# Altium footprint library chipshouter-pico.PcbLib: 27 footprints (part 1 of 2)
Each footprint in its own frame and in the unit in brackets; x right, y up, seen from the top. Pads: shape width x height; smd on the part's side, far side on the other; paste and mask are expansions set on the pad; w line width, h text height; cw(c..) or ccw(c..) is an arc to the next point about the centre after c.
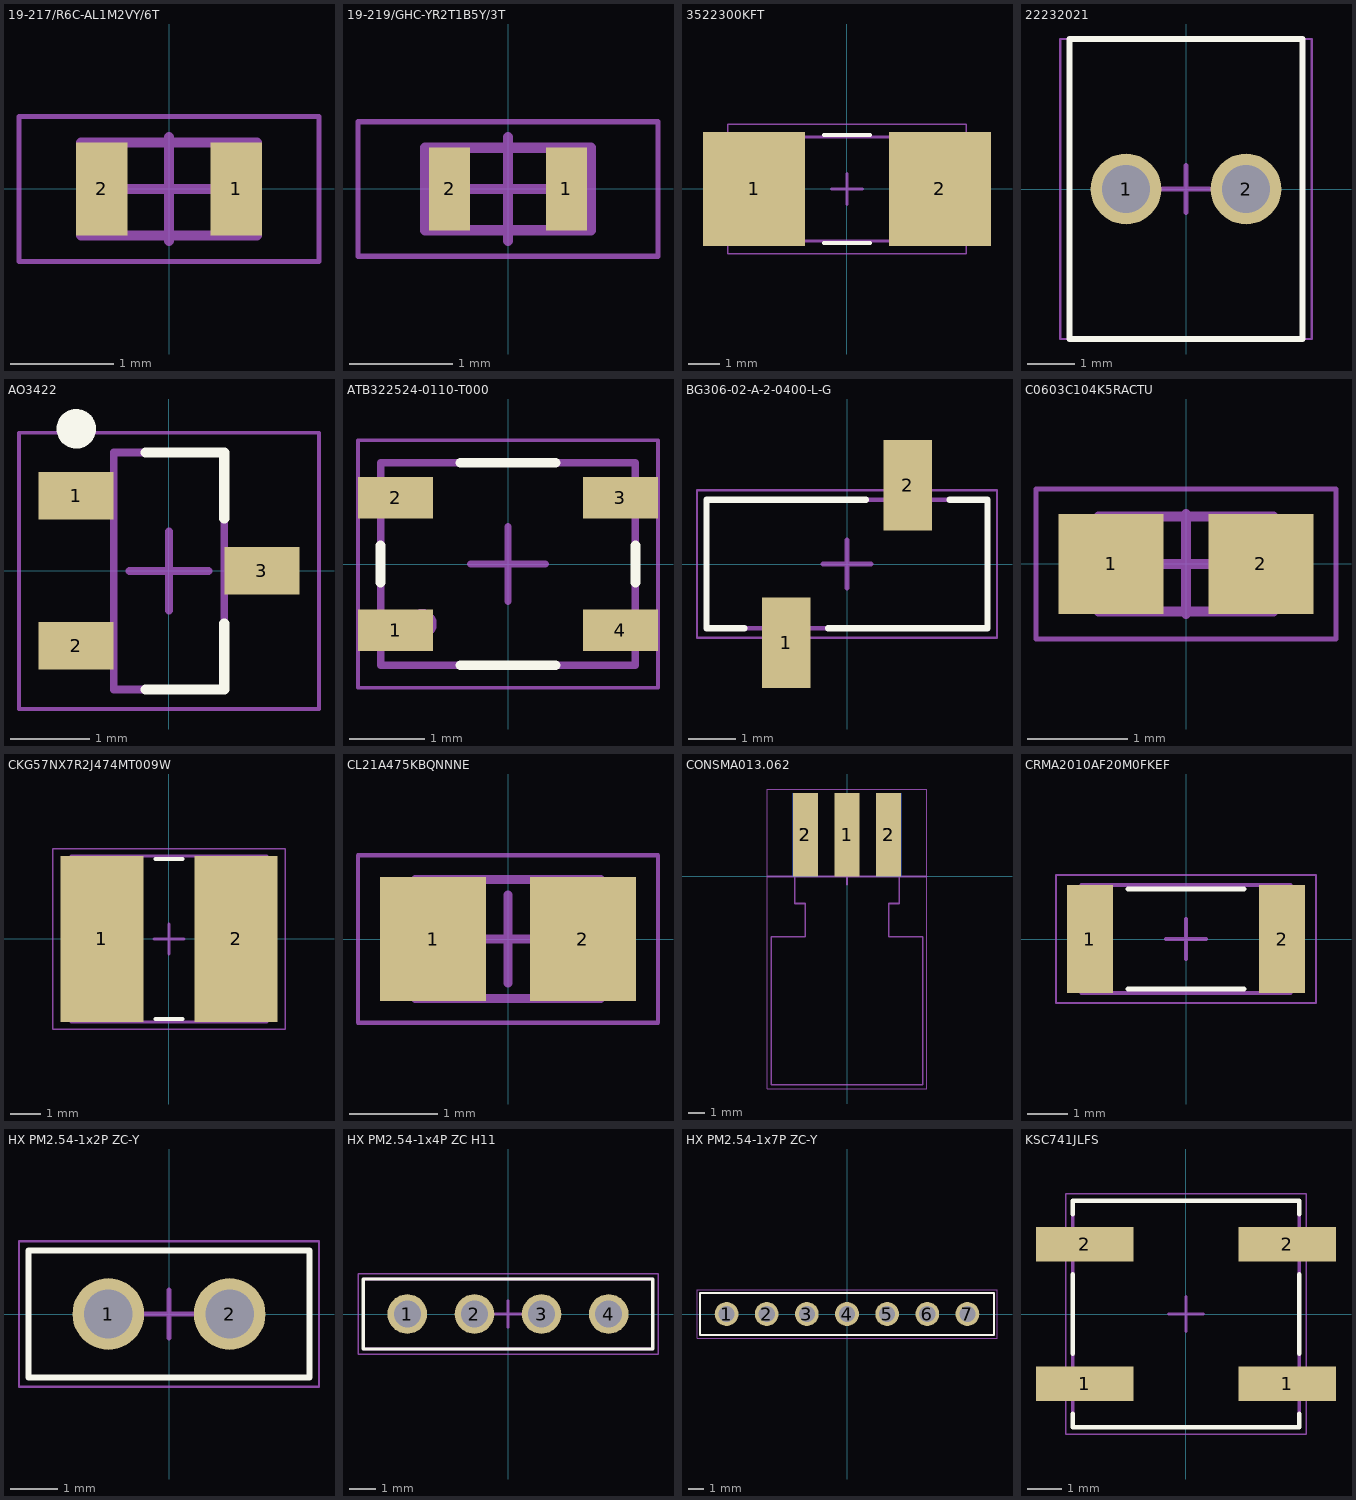
[diagram p0: the footprints below, top view; thin cyan lines are the x and y axes]

## 19-217/R6C-AL1M2VY/6T [mm] "EVERLIGHT RED LED WATER CLEAR 0603 SMD"
height 0.5
pads (2):
  rect 0.5x0.9 smd mask+0.05: 1(0.65,0) 2(-0.65,0)
Top Assembly:
  rectangle: 0.6,-0.45 0.85,0.45
  lines w0.1: -0.85,-0.45 -0.85,0.45 0.85,0.45 0.85,-0.45 -0.85,-0.45
  text ".Designator" at -0.451,-0.045 h0.2
Top Courtyard:
  lines w0.05: -1.45,-0.7 -1.45,0.7 1.45,0.7 1.45,-0.7 -1.45,-0.7
  lines w0.1: -0.5,0 0.5,0 ; 0,-0.5 0,0.5

## 19-219/GHC-YR2T1B5Y/3T [mm] "LED GREEN WATER CLEAR 0603 SMD"
height 0.25
pads (2):
  rect 0.4x0.8 smd mask+0.05: 1(0.565,0) 2(-0.565,0)
Top Assembly:
  rectangle: 0.6,-0.4 0.8,0.4
  lines w0.1: -0.8,-0.4 -0.8,0.4 0.8,0.4 0.8,-0.4 -0.8,-0.4
  text ".Designator" at -0.564,-0.057 h0.25
Top Courtyard:
  lines w0.05: -1.45,-0.65 -1.45,0.65 1.45,0.65 1.45,-0.65 -1.45,-0.65
  lines w0.1: -0.5,0 0.5,0 ; 0,-0.5 0,0.5

## 3522300KFT [mm] "RES 300kO ±1% 3W"
height 1.2
pads (2):
  rect 3.3x3.7 smd mask+0.05: 1(-3,0) 2(3,0)
Top Overlay:
  lines w0.127: -0.75,-1.75 0.75,-1.75 ; -0.75,1.75 0.75,1.75
Top Assembly:
  lines w0.1: -3.225,-1.675 3.225,-1.675 3.225,1.675 -3.225,1.675 -3.225,-1.675
  text ".Designator" at -2.252,-0.226 h1
Top Courtyard:
  lines w0.05: -3.85,-2.1 3.85,-2.1 3.85,2.1 -3.85,2.1 -3.85,-2.1
  lines w0.1: -0.5,0 0.5,0 ; 0,-0.5 0,0.5
3D body "RESC6432X12N.step": height 1.2, standoff 0, extent -3.225,-1.675 3.225,1.675

## 22232021 [mm] "HEADER ASSEMBLY, FRICTION LOCK SOLID BODY"
height 8.18
pads (2):
  round 1.5 hole 1.02 mask+0.05: 1(-1.27,0) 2(1.27,0)
Top Overlay:
  lines w0.127: -2.465,-3.175 -2.465,3.175 2.465,3.175 2.465,-3.175 -2.465,-3.175
Top Assembly:
  lines w0.1: -2.465,-3.175 -2.465,3.175 2.465,3.175 2.465,-3.175 -2.465,-3.175
  text ".Designator" at -2.252,-0.226 h1
Top Courtyard:
  lines w0.05: -2.665,-3.175 2.665,-3.175 2.665,3.175 -2.665,3.175 -2.665,-3.175
  lines w0.1: -0.5,0 0.5,0 ; 0,-0.5 0,0.5

## AO3422 [mm] "MOSFET 60V 3A SOT-23"
height 1.15
pads (3):
  rect 0.95x0.6 smd mask+0.05: 1(-1.175,0.95) 2(-1.175,-0.95) 3(1.175,0)
Top Overlay:
  circle w0.25: c-1.175,1.8 r0.125
  lines w0.127: -0.3,-1.5 0.7,-1.5 0.7,-0.663 ; -0.3,1.5 0.7,1.5 0.7,0.664
Top Assembly:
  lines w0.1: -0.7,-1.5 -0.7,1.5 0.7,1.5 0.7,-1.5 -0.7,-1.5
  text ".Designator" at -0.135,1.349 h0.6
Top Courtyard:
  lines w0.05: -1.9,-1.75 -1.9,1.75 1.9,1.75 1.9,-1.75 -1.9,-1.75
  lines w0.1: -0.5,0 0.5,0 ; 0,-0.5 0,0.5
3D body "SOT95P240X115-3N.step": height 1.15, standoff 0, extent -1.275,-1.5 1.275,1.5

## ATB322524-0110-T000 [mm] "Step-up transformers"
height 2.4
pads (4):
  rect 1x0.55 smd mask+0.05: 1(-1.5,-0.885) 2(-1.5,0.885) 3(1.5,0.885) 4(1.5,-0.885)
Top Overlay:
  lines w0.127: -1.7,-0.247 -1.7,0.247 ; -0.637,-1.35 0.637,-1.35 ; -0.637,1.35 0.637,1.35 ; 1.7,-0.247 1.7,0.247
Top Assembly:
  circle w0.2: c-1.15,-0.8 r0.1
  lines w0.1: -1.7,-1.35 -1.7,1.35 1.7,1.35 1.7,-1.35 -1.7,-1.35
  text ".Designator" at -1.349,-0.135 h0.6
Top Courtyard:
  lines w0.05: -2,-1.65 2,-1.65 2,1.65 -2,1.65 -2,-1.65
  lines w0.1: -0.5,0 0.5,0 ; 0,-0.5 0,0.5

## BG306-02-A-2-0400-L-G [mm] "CONN SOCKET 2POS 2.54mm SINGLE ROW SMD"
height 5.15
pads (2):
  rect 1.02x1.9 smd mask+0.05: 1(-1.27,-1.65) 2(1.27,1.65)
Top Overlay:
  lines w0.127: -2.143,-1.345 -2.94,-1.345 -2.94,1.345 0.397,1.345 ; -0.397,-1.345 2.94,-1.345 2.94,1.345 2.143,1.345
Top Assembly:
  lines w0.1: -2.94,-1.345 2.94,-1.345 2.94,1.345 -2.94,1.345 -2.94,-1.345
  text ".Designator" at -1.349,-0.135 h0.6
Top Courtyard:
  lines w0.05: -3.14,-1.545 -3.14,1.545 3.14,1.545 3.14,-1.545 -3.14,-1.545
  lines w0.1: -0.5,0 0.5,0 ; 0,-0.5 0,0.5

## C0603C104K5RACTU [mm] "CAP CER 100nF 50V X7R 0603"
height 0.87
pads (2):
  rect 1.05x1 smd mask+0.05: 1(-0.75,0) 2(0.75,0)
Top Assembly:
  lines w0.1: -0.875,-0.475 -0.875,0.475 0.875,0.475 0.875,-0.475 -0.875,-0.475
  text ".Designator" at -0.674,-0.068 h0.3
Top Courtyard:
  lines w0.05: -1.5,-0.75 -1.5,0.75 1.5,0.75 1.5,-0.75 -1.5,-0.75
  lines w0.1: -0.5,0 0.5,0 ; 0,-0.5 0,0.5
3D body "CAPC1608X09N.step": height 0.87, standoff 0, extent -0.875,-0.475 0.875,0.475

## CKG57NX7R2J474MT009W [mm] "CAP CER 470nF 630V X7R SMD"
height 5.5
pads (2):
  rect 2.75x5.5 smd mask+0.05: 1(-2.225,0) 2(2.225,0)
Top Overlay:
  lines w0.127: -0.45,-2.65 0.45,-2.65 ; -0.45,2.65 0.45,2.65
Top Assembly:
  lines w0.1: -3.25,-2.75 3.25,-2.75 3.25,2.75 -3.25,2.75 -3.25,-2.75
  text ".Designator" at -2.252,-0.226 h1
Top Courtyard:
  lines w0.05: -3.85,-3 3.85,-3 3.85,3 -3.85,3 -3.85,-3
  lines w0.1: -0.5,0 0.5,0 ; 0,-0.5 0,0.5
3D body "KRM55TR72J474MH01K.STEP": height 5, standoff 0, extent -3.05,-2.65 3.05,2.65

## CL21A475KBQNNNE [mm] "CAP CER 4.7uF 50V X5R 0805"
height 1.25
pads (2):
  rect 1.2x1.4 smd mask+0.05: 1(-0.85,0) 2(0.85,0)
Top Assembly:
  lines w0.1: -1.05,-0.675 1.05,-0.675 1.05,0.675 -1.05,0.675 -1.05,-0.675
  text ".Designator" at -0.897,-0.09 h0.4
Top Courtyard:
  lines w0.05: -1.7,-0.95 1.7,-0.95 1.7,0.95 -1.7,0.95 -1.7,-0.95
  lines w0.1: -0.5,0 0.5,0 ; 0,-0.5 0,0.5
3D body "CAPC2012X12N.step": height 1.25, standoff 0, extent -1.05,-0.675 1.05,0.675

## CONSMA013.062 [mm] "SMA Connector Plug, Male Pin 50 Ohms Board Edge, End Launch Solder"
pads (5):
  rect 1.52x5.08 smd mask+0.05: 1(0,2.54) 2(-2.54,2.54) 2(2.54,2.54)
  rect 1.52x5.08 smd far side mask+0.05: 2(-2.54,2.54) 2(2.54,2.54)
Top Assembly:
  lines w0.1: -4.87,0 -3.175,0 ; 4.87,0 3.175,0 ; -3.175,0 3.175,0 ; -3.175,0 -3.175,-1.65 -2.54,-1.65 -2.54,-3.67 -4.62,-3.67 -4.62,-12.7 4.62,-12.7 4.62,-3.67 2.54,-3.67 2.54,-1.65 3.175,-1.65 3.175,0
  text ".Designator" at -2.252,0.274 h1
Bottom Assembly:
  lines w0.1: -4.62,-12.7 4.62,-12.7 4.62,-3.67 2.54,-3.67 2.54,-1.65 3.175,-1.65 3.175,0 -3.175,0 -3.175,-1.65 -2.54,-1.65 -2.54,-3.67 -4.62,-3.67 -4.62,-12.7
Top Courtyard:
  lines w0.05: -4.87,-12.95 -4.87,5.33 4.87,5.33 4.87,-12.95 -4.87,-12.95
  lines w0.1: -0.5,0 0.5,0 ; 0,-0.5 0,0.5
Bottom Courtyard:
  lines w0.05: -4.87,-12.95 -4.87,5.33 4.87,5.33 4.87,-12.95 -4.87,-12.95
  lines w0.1: -0.5,0 0.5,0 ; 0,-0.5 0,0.5
3D body "step_temp.STEP": height 4.35, standoff -3.65, extent -4.619,-12.7 4.619,4.75

## CRMA2010AF20M0FKEF [mm] "RES 20MO ±1% 500mW 2010"
height 0.74
pads (2):
  rect 1.15x2.7 smd mask+0.05: 1(-2.4,0) 2(2.4,0)
Top Overlay:
  lines w0.127: -1.45,-1.25 1.45,-1.25 ; -1.45,1.25 1.45,1.25
Top Assembly:
  lines w0.1: -2.615,-1.345 2.615,-1.345 2.615,1.345 -2.615,1.345 -2.615,-1.345
  text ".Designator" at -2.252,-0.226 h1
Top Courtyard:
  lines w0.05: -3.25,-1.6 3.25,-1.6 3.25,1.6 -3.25,1.6 -3.25,-1.6
  lines w0.1: -0.5,0 0.5,0 ; 0,-0.5 0,0.5
3D body "RESC5125X07N.step": height 0.74, standoff 0, extent -2.615,-1.345 2.615,1.345

## HX PM2.54-1x2P ZC-Y [mm] "CONN SOCKET 2POS 2.54mm SINGLE ROW TH"
height 8.65
pads (2):
  round 1.5 hole 1.02 mask+0.05: 1(-1.27,0) 2(1.27,0)
Top Overlay:
  lines w0.127: -2.94,-1.325 -2.94,1.325 2.94,1.325 2.94,-1.325 -2.94,-1.325
Top Assembly:
  lines w0.1: -2.94,-1.325 -2.94,1.325 2.94,1.325 2.94,-1.325 -2.94,-1.325
  text ".Designator" at -2.252,-0.226 h1
Top Courtyard:
  lines w0.05: -3.14,-1.525 3.14,-1.525 3.14,1.525 -3.14,1.525 -3.14,-1.525
  lines w0.1: -0.5,0 0.5,0 ; 0,-0.5 0,0.5

## HX PM2.54-1x4P ZC H11 [mm] "CONN SOCKET 4POS 2.54mm SINGLE ROW TH"
height 11.2
pads (4):
  round 1.5 hole 1.02 mask+0.05: 1(-3.81,0) 2(-1.27,0) 3(1.27,0) 4(3.81,0)
Top Overlay:
  lines w0.127: -5.48,-1.325 5.48,-1.325 5.48,1.325 -5.48,1.325 -5.48,-1.325
Top Assembly:
  lines w0.1: -5.48,-1.325 5.48,-1.325 5.48,1.325 -5.48,1.325 -5.48,-1.325
  text ".Designator" at -2.252,-0.226 h1
Top Courtyard:
  lines w0.05: -5.68,-1.525 -5.68,1.525 5.68,1.525 5.68,-1.525 -5.68,-1.525
  lines w0.1: -0.5,0 0.5,0 ; 0,-0.5 0,0.5

## HX PM2.54-1x7P ZC-Y [mm] "CONN SOCKET 7POS 2.54mm SINGLE ROW TH"
height 8.65
pads (7):
  round 1.5 hole 1.02 mask+0.05: 1(-7.62,0) 2(-5.08,0) 3(-2.54,0) 4(0,0) 5(2.54,0) 6(5.08,0) 7(7.62,0)
Top Overlay:
  lines w0.127: -9.29,-1.325 9.29,-1.325 9.29,1.325 -9.29,1.325 -9.29,-1.325
Top Assembly:
  lines w0.1: -9.29,-1.325 9.29,-1.325 9.29,1.325 -9.29,1.325 -9.29,-1.325
  text ".Designator" at -2.252,-0.226 h1
Top Courtyard:
  lines w0.05: -9.49,-1.525 -9.49,1.525 9.49,1.525 9.49,-1.525 -9.49,-1.525
  lines w0.1: -0.5,0 0.5,0 ; 0,-0.5 0,0.5

## KSC741JLFS [mm] "SWITCH TACTILE SPST 390gf SMD"
height 4.3
pads (4):
  rect 2.8x1 smd mask+0.05: 1(-2.9,-2) 1(2.9,-2) 2(-2.9,2) 2(2.9,2)
Top Overlay:
  lines w0.127: -3.25,-2.863 -3.25,-3.25 3.25,-3.25 3.25,-2.863 ; -3.25,-1.137 -3.25,1.137 ; -3.25,2.863 -3.25,3.25 3.25,3.25 3.25,2.863 ; 3.25,-1.137 3.25,1.137
Top Assembly:
  lines w0.1: -3.25,-3.25 -3.25,3.25 3.25,3.25 3.25,-3.25 -3.25,-3.25
  text ".Designator" at -2.252,-0.226 h1
Top Courtyard:
  lines w0.05: -3.45,-3.45 3.45,-3.45 3.45,3.45 -3.45,3.45 -3.45,-3.45
  lines w0.1: -0.5,0 0.5,0 ; 0,-0.5 0,0.5